# Altium footprint library Modules.PcbLib: 14 footprints (part 6 of 6)
Each footprint in its own frame and in the unit in brackets; x right, y up, seen from the top. Pads: shape width x height; smd on the part's side, far side on the other; paste and mask are expansions set on the pad; w line width, h text height; cw(c..) or ccw(c..) is an arc to the next point about the centre after c.
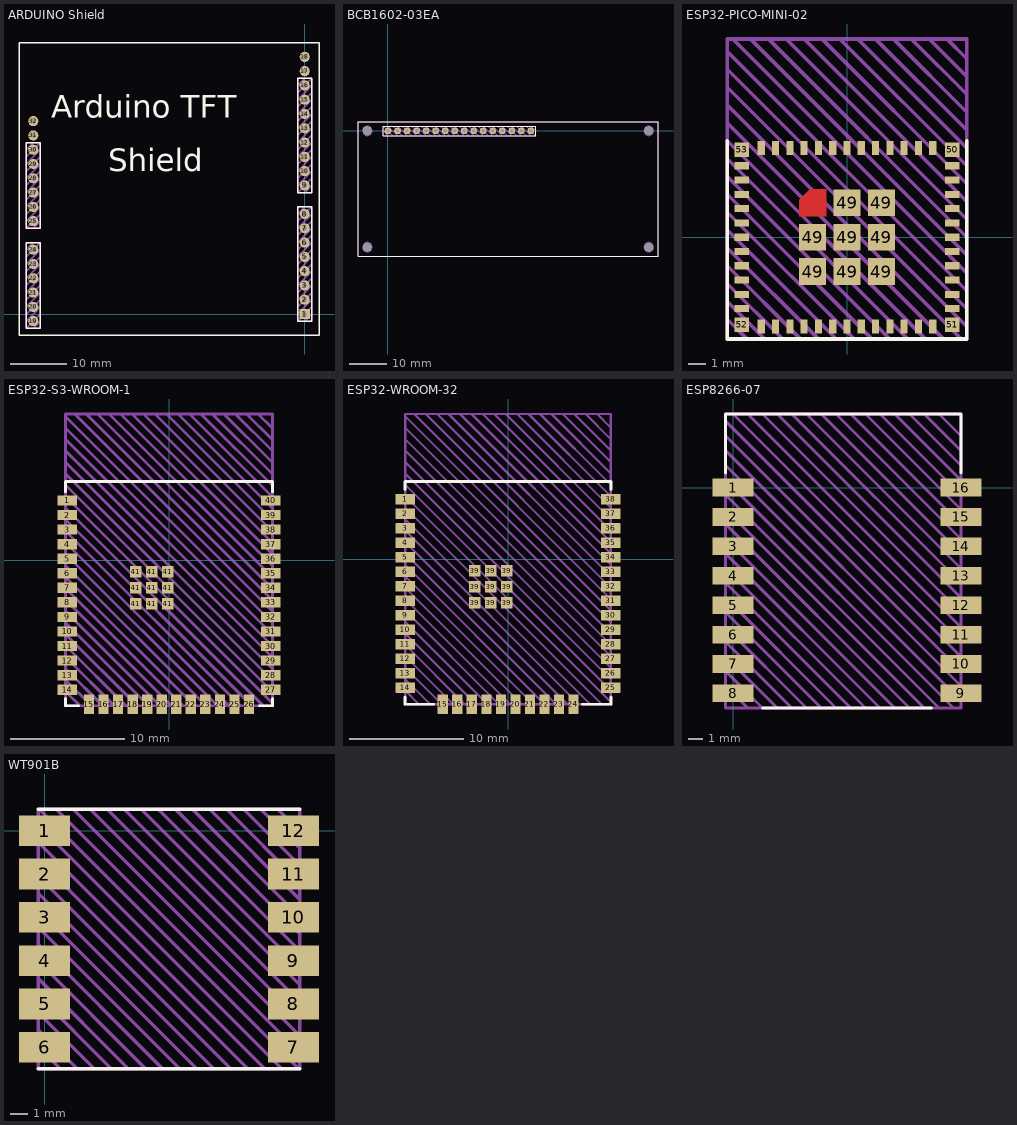
[diagram p5: the footprints below, top view; thin cyan lines are the x and y axes]

## ARDUINO Shield [mm]
pads (32):
  rect 1.8x1.8 hole 0.9: 1(0,0)
  round 1.8 hole 0.9: 2(0,2.54) 3(0,5.08) 4(0,7.62) 5(0,10.16) 6(0,12.7) 7(0,15.24) 8(0,17.78) 9(0,22.86) 10(0,25.4) 11(0,27.94) 12(0,30.48) 13(0,33.02) 14(0,35.56) 15(0,38.1) 16(0,40.64) 17(0,43.18) 18(0,45.72) 19(-48.26,-1.27) 20(-48.26,1.27) 21(-48.26,3.81) 22(-48.26,6.35) 23(-48.26,8.89) 24(-48.26,11.43) 25(-48.26,16.51) 26(-48.26,19.05) 27(-48.26,21.59) 28(-48.26,24.13) 29(-48.26,26.67) 30(-48.26,29.21) 31(-48.26,31.75) 32(-48.26,34.29)
Top Overlay:
  drawing of 358 lines, arcs and shapes, not listed
  text "Arduino TFT" at -45.085,34.925 h4
  text "Shield" at -34.925,25.4 h4
Top Draw:
  drawing of 162 lines, arcs and shapes, not listed
3D body: height 7.5, standoff 0, extent -0.533,37.567 0.533,37.592
3D body: height 8, standoff 0, extent 0.991,36.83 1.27,39.37
3D body: height 8, standoff 0, extent -1.27,39.091 1.27,39.37
3D body: height 0, standoff -2.03, extent -0.127,37.846 0.127,38.354
3D body: height 8, standoff 0, extent -1.27,36.83 1.27,37.11
3D body: height 7, standoff 0, extent -0.534,37.567 0.533,37.618
3D body: height 7, standoff 0, extent 0.482,37.567 0.533,38.634
3D body: height 7, standoff 0, extent -0.534,38.583 0.533,38.634
3D body: height 7, standoff 0, extent -0.534,37.567 -0.483,38.634
3D body: height 1, standoff 0, extent -0.635,37.465 0.635,38.735
3D body: height 8, standoff 0, extent -1.27,36.83 -0.991,39.37
3D body: height 8, standoff 7.5, extent -0.991,37.092 1.041,37.592
3D body: height 8, standoff 7.5, extent -1.009,37.084 -0.508,39.116
3D body: height 8, standoff 7.5, extent -1.016,38.608 1.016,39.109
3D body: height 8, standoff 7.5, extent 0.508,37.084 1.008,39.116
3D body: height 7.5, standoff 0, extent 0.508,37.567 0.533,38.634
3D body: height 7.5, standoff 0, extent -0.533,37.567 -0.508,38.634
3D body: height 7.5, standoff 0, extent -0.533,38.608 0.533,38.634
3D body: height 7.5, standoff 0, extent -0.533,40.107 0.533,40.132
3D body: height 8, standoff 0, extent 0.991,39.37 1.27,41.91
3D body: height 8, standoff 0, extent -1.27,41.631 1.27,41.91
3D body: height 0, standoff -2.03, extent -0.127,40.386 0.127,40.894
3D body: height 8, standoff 0, extent -1.27,39.37 1.27,39.65
3D body: height 7, standoff 0, extent -0.534,40.107 0.533,40.158
3D body: height 7, standoff 0, extent 0.482,40.107 0.533,41.174
3D body: height 7, standoff 0, extent -0.534,41.123 0.533,41.174
3D body: height 7, standoff 0, extent -0.534,40.107 -0.483,41.174
3D body: height 1, standoff 0, extent -0.635,40.005 0.635,41.275
3D body: height 8, standoff 0, extent -1.27,39.37 -0.991,41.91
3D body: height 8, standoff 7.5, extent -0.991,39.632 1.041,40.132
3D body: height 8, standoff 7.5, extent -1.009,39.624 -0.508,41.656
3D body: height 8, standoff 7.5, extent -1.016,41.148 1.016,41.649
3D body: height 8, standoff 7.5, extent 0.508,39.624 1.008,41.656
3D body: height 7.5, standoff 0, extent 0.508,40.107 0.533,41.174
3D body: height 7.5, standoff 0, extent -0.533,40.107 -0.508,41.174
3D body: height 7.5, standoff 0, extent -0.533,41.148 0.533,41.174
3D body: height 7.5, standoff 0, extent -0.533,32.487 0.533,32.512
3D body: height 8, standoff 0, extent 0.991,31.75 1.27,34.29
3D body: height 8, standoff 0, extent -1.27,34.011 1.27,34.29
3D body: height 0, standoff -2.03, extent -0.127,32.766 0.127,33.274
3D body: height 8, standoff 0, extent -1.27,31.75 1.27,32.03
3D body: height 7, standoff 0, extent -0.534,32.487 0.533,32.538
3D body: height 7, standoff 0, extent 0.482,32.487 0.533,33.554
3D body: height 7, standoff 0, extent -0.534,33.503 0.533,33.554
3D body: height 7, standoff 0, extent -0.534,32.487 -0.483,33.554
3D body: height 1, standoff 0, extent -0.635,32.385 0.635,33.655
3D body: height 8, standoff 0, extent -1.27,31.75 -0.991,34.29
3D body: height 8, standoff 7.5, extent -0.991,32.012 1.041,32.512
3D body: height 8, standoff 7.5, extent -1.009,32.004 -0.508,34.036
3D body: height 8, standoff 7.5, extent -1.016,33.528 1.016,34.029
3D body: height 8, standoff 7.5, extent 0.508,32.004 1.008,34.036
3D body: height 7.5, standoff 0, extent 0.508,32.487 0.533,33.554
3D body: height 7.5, standoff 0, extent -0.533,32.487 -0.508,33.554
3D body: height 7.5, standoff 0, extent -0.533,33.528 0.533,33.554
3D body: height 7.5, standoff 0, extent -0.533,35.027 0.533,35.052
3D body: height 8, standoff 0, extent 0.991,34.29 1.27,36.83
3D body: height 8, standoff 0, extent -1.27,36.551 1.27,36.83
3D body: height 0, standoff -2.03, extent -0.127,35.306 0.127,35.814
3D body: height 8, standoff 0, extent -1.27,34.29 1.27,34.57
3D body: height 7, standoff 0, extent -0.534,35.027 0.533,35.078
3D body: height 7, standoff 0, extent 0.482,35.027 0.533,36.094
3D body: height 7, standoff 0, extent -0.534,36.043 0.533,36.094
3D body: height 7, standoff 0, extent -0.534,35.027 -0.483,36.094
3D body: height 1, standoff 0, extent -0.635,34.925 0.635,36.195
3D body: height 8, standoff 0, extent -1.27,34.29 -0.991,36.83
3D body: height 8, standoff 7.5, extent -0.991,34.552 1.041,35.052
3D body: height 8, standoff 7.5, extent -1.009,34.544 -0.508,36.576
3D body: height 8, standoff 7.5, extent -1.016,36.068 1.016,36.569
3D body: height 8, standoff 7.5, extent 0.508,34.544 1.008,36.576
3D body: height 7.5, standoff 0, extent 0.508,35.027 0.533,36.094
3D body: height 7.5, standoff 0, extent -0.533,35.027 -0.508,36.094
3D body: height 7.5, standoff 0, extent -0.533,36.068 0.533,36.094
3D body: height 7.5, standoff 0, extent -0.533,27.407 0.533,27.432
3D body: height 8, standoff 0, extent 0.991,26.67 1.27,29.21
3D body: height 8, standoff 0, extent -1.27,28.931 1.27,29.21
3D body: height 0, standoff -2.03, extent -0.127,27.686 0.127,28.194
3D body: height 8, standoff 0, extent -1.27,26.67 1.27,26.95
3D body: height 7, standoff 0, extent -0.534,27.407 0.533,27.458
3D body: height 7, standoff 0, extent 0.482,27.407 0.533,28.474
3D body: height 7, standoff 0, extent -0.534,28.423 0.533,28.474
3D body: height 7, standoff 0, extent -0.534,27.407 -0.483,28.474
3D body: height 1, standoff 0, extent -0.635,27.305 0.635,28.575
3D body: height 8, standoff 0, extent -1.27,26.67 -0.991,29.21
3D body: height 8, standoff 7.5, extent -0.991,26.932 1.041,27.432
3D body: height 8, standoff 7.5, extent -1.009,26.924 -0.508,28.956
3D body: height 8, standoff 7.5, extent -1.016,28.448 1.016,28.949
3D body: height 8, standoff 7.5, extent 0.508,26.924 1.008,28.956
3D body: height 7.5, standoff 0, extent 0.508,27.407 0.533,28.474
3D body: height 7.5, standoff 0, extent -0.533,27.407 -0.508,28.474
3D body: height 7.5, standoff 0, extent -0.533,28.448 0.533,28.474
3D body: height 7.5, standoff 0, extent -0.533,29.947 0.533,29.972
3D body: height 8, standoff 0, extent 0.991,29.21 1.27,31.75
3D body: height 8, standoff 0, extent -1.27,31.471 1.27,31.75
3D body: height 0, standoff -2.03, extent -0.127,30.226 0.127,30.734
3D body: height 8, standoff 0, extent -1.27,29.21 1.27,29.49
3D body: height 7, standoff 0, extent -0.534,29.947 0.533,29.998
3D body: height 7, standoff 0, extent 0.482,29.947 0.533,31.014
3D body: height 7, standoff 0, extent -0.534,30.963 0.533,31.014
3D body: height 7, standoff 0, extent -0.534,29.947 -0.483,31.014
3D body: height 1, standoff 0, extent -0.635,29.845 0.635,31.115
3D body: height 8, standoff 0, extent -1.27,29.21 -0.991,31.75
3D body: height 8, standoff 7.5, extent -0.991,29.472 1.041,29.972
3D body: height 8, standoff 7.5, extent -1.009,29.464 -0.508,31.496
3D body: height 8, standoff 7.5, extent -1.016,30.988 1.016,31.489
3D body: height 8, standoff 7.5, extent 0.508,29.464 1.008,31.496
3D body: height 7.5, standoff 0, extent 0.508,29.947 0.533,31.014
3D body: height 7.5, standoff 0, extent -0.533,29.947 -0.508,31.014
3D body: height 7.5, standoff 0, extent -0.533,30.988 0.533,31.014
3D body: height 7.5, standoff 0, extent -0.533,22.327 0.533,22.352
3D body: height 8, standoff 0, extent 0.991,21.59 1.27,24.13
3D body: height 8, standoff 0, extent -1.27,23.851 1.27,24.13
3D body: height 0, standoff -2.03, extent -0.127,22.606 0.127,23.114
3D body: height 8, standoff 0, extent -1.27,21.59 1.27,21.87
3D body: height 7, standoff 0, extent -0.534,22.327 0.533,22.378
3D body: height 7, standoff 0, extent 0.482,22.327 0.533,23.394
3D body: height 7, standoff 0, extent -0.534,23.343 0.533,23.394
3D body: height 7, standoff 0, extent -0.534,22.327 -0.483,23.394
3D body: height 1, standoff 0, extent -0.635,22.225 0.635,23.495
3D body: height 8, standoff 0, extent -1.27,21.59 -0.991,24.13
3D body: height 8, standoff 7.5, extent -0.991,21.852 1.041,22.352
3D body: height 8, standoff 7.5, extent -1.009,21.844 -0.508,23.876
3D body: height 8, standoff 7.5, extent -1.016,23.368 1.016,23.869
3D body: height 8, standoff 7.5, extent 0.508,21.844 1.008,23.876
3D body: height 7.5, standoff 0, extent 0.508,22.327 0.533,23.394
3D body: height 7.5, standoff 0, extent -0.533,22.327 -0.508,23.394
3D body: height 7.5, standoff 0, extent -0.533,23.368 0.533,23.394
3D body: height 7.5, standoff 0, extent -0.533,24.867 0.533,24.892
3D body: height 8, standoff 0, extent 0.991,24.13 1.27,26.67
3D body: height 8, standoff 0, extent -1.27,26.391 1.27,26.67
3D body: height 0, standoff -2.03, extent -0.127,25.146 0.127,25.654
3D body: height 8, standoff 0, extent -1.27,24.13 1.27,24.41
3D body: height 7, standoff 0, extent -0.534,24.867 0.533,24.918
3D body: height 7, standoff 0, extent 0.482,24.867 0.533,25.934
3D body: height 7, standoff 0, extent -0.534,25.883 0.533,25.934
3D body: height 7, standoff 0, extent -0.534,24.867 -0.483,25.934
3D body: height 1, standoff 0, extent -0.635,24.765 0.635,26.035
3D body: height 8, standoff 0, extent -1.27,24.13 -0.991,26.67
3D body: height 8, standoff 7.5, extent -0.991,24.392 1.041,24.892
3D body: height 8, standoff 7.5, extent -1.009,24.384 -0.508,26.416
3D body: height 8, standoff 7.5, extent -1.016,25.908 1.016,26.409
3D body: height 8, standoff 7.5, extent 0.508,24.384 1.008,26.416
3D body: height 7.5, standoff 0, extent 0.508,24.867 0.533,25.934
3D body: height 7.5, standoff 0, extent -0.533,24.867 -0.508,25.934
3D body: height 7.5, standoff 0, extent -0.533,25.908 0.533,25.934
3D body: height 7.5, standoff 0, extent -0.533,14.707 0.533,14.732
3D body: height 8, standoff 0, extent 0.991,13.97 1.27,16.51
3D body: height 8, standoff 0, extent -1.27,16.231 1.27,16.51
3D body: height 0, standoff -2.03, extent -0.127,14.986 0.127,15.494
3D body: height 8, standoff 0, extent -1.27,13.97 1.27,14.25
3D body: height 7, standoff 0, extent -0.534,14.707 0.533,14.758
3D body: height 7, standoff 0, extent 0.482,14.707 0.533,15.774
3D body: height 7, standoff 0, extent -0.534,15.723 0.533,15.774
3D body: height 7, standoff 0, extent -0.534,14.707 -0.483,15.774
3D body: height 1, standoff 0, extent -0.635,14.605 0.635,15.875
3D body: height 8, standoff 0, extent -1.27,13.97 -0.991,16.51
3D body: height 8, standoff 7.5, extent -0.991,14.232 1.041,14.732
3D body: height 8, standoff 7.5, extent -1.009,14.224 -0.508,16.256
3D body: height 8, standoff 7.5, extent -1.016,15.748 1.016,16.249
3D body: height 8, standoff 7.5, extent 0.508,14.224 1.008,16.256
3D body: height 7.5, standoff 0, extent 0.508,14.707 0.533,15.774
3D body: height 7.5, standoff 0, extent -0.533,14.707 -0.508,15.774
3D body: height 7.5, standoff 0, extent -0.533,15.748 0.533,15.774
3D body: height 7.5, standoff 0, extent -0.533,17.247 0.533,17.272
3D body: height 8, standoff 0, extent 0.991,16.51 1.27,19.05
3D body: height 8, standoff 0, extent -1.27,18.771 1.27,19.05
3D body: height 0, standoff -2.03, extent -0.127,17.526 0.127,18.034
3D body: height 8, standoff 0, extent -1.27,16.51 1.27,16.79
3D body: height 7, standoff 0, extent -0.534,17.247 0.533,17.298
3D body: height 7, standoff 0, extent 0.482,17.247 0.533,18.314
3D body: height 7, standoff 0, extent -0.534,18.263 0.533,18.314
3D body: height 7, standoff 0, extent -0.534,17.247 -0.483,18.314
3D body: height 1, standoff 0, extent -0.635,17.145 0.635,18.415
3D body: height 8, standoff 0, extent -1.27,16.51 -0.991,19.05
3D body: height 8, standoff 7.5, extent -0.991,16.772 1.041,17.272
3D body: height 8, standoff 7.5, extent -1.009,16.764 -0.508,18.796
3D body: height 8, standoff 7.5, extent -1.016,18.288 1.016,18.789
3D body: height 8, standoff 7.5, extent 0.508,16.764 1.008,18.796
3D body: height 7.5, standoff 0, extent 0.508,17.247 0.533,18.314
3D body: height 7.5, standoff 0, extent -0.533,17.247 -0.508,18.314
3D body: height 7.5, standoff 0, extent -0.533,18.288 0.533,18.314
3D body: height 7.5, standoff 0, extent -0.533,9.627 0.533,9.652
3D body: height 8, standoff 0, extent 0.991,8.89 1.27,11.43
3D body: height 8, standoff 0, extent -1.27,11.151 1.27,11.43
3D body: height 0, standoff -2.03, extent -0.127,9.906 0.127,10.414
3D body: height 8, standoff 0, extent -1.27,8.89 1.27,9.17
3D body: height 7, standoff 0, extent -0.534,9.627 0.533,9.678
3D body: height 7, standoff 0, extent 0.482,9.627 0.533,10.694
3D body: height 7, standoff 0, extent -0.534,10.643 0.533,10.694
3D body: height 7, standoff 0, extent -0.534,9.627 -0.483,10.694
3D body: height 1, standoff 0, extent -0.635,9.525 0.635,10.795
3D body: height 8, standoff 0, extent -1.27,8.89 -0.991,11.43
3D body: height 8, standoff 7.5, extent -0.991,9.152 1.041,9.652
3D body: height 8, standoff 7.5, extent -1.009,9.144 -0.508,11.176
3D body: height 8, standoff 7.5, extent -1.016,10.668 1.016,11.169
3D body: height 8, standoff 7.5, extent 0.508,9.144 1.008,11.176
3D body: height 7.5, standoff 0, extent 0.508,9.627 0.533,10.694
3D body: height 7.5, standoff 0, extent -0.533,9.627 -0.508,10.694
3D body: height 7.5, standoff 0, extent -0.533,10.668 0.533,10.694
3D body: height 7.5, standoff 0, extent -0.533,12.167 0.533,12.192
3D body: height 8, standoff 0, extent 0.991,11.43 1.27,13.97
3D body: height 8, standoff 0, extent -1.27,13.691 1.27,13.97
3D body: height 0, standoff -2.03, extent -0.127,12.446 0.127,12.954
3D body: height 8, standoff 0, extent -1.27,11.43 1.27,11.71
3D body: height 7, standoff 0, extent -0.534,12.167 0.533,12.218
3D body: height 7, standoff 0, extent 0.482,12.167 0.533,13.234
3D body: height 7, standoff 0, extent -0.534,13.183 0.533,13.234
3D body: height 7, standoff 0, extent -0.534,12.167 -0.483,13.234
3D body: height 1, standoff 0, extent -0.635,12.065 0.635,13.335
3D body: height 8, standoff 0, extent -1.27,11.43 -0.991,13.97
3D body: height 8, standoff 7.5, extent -0.991,11.692 1.041,12.192
3D body: height 8, standoff 7.5, extent -1.009,11.684 -0.508,13.716
3D body: height 8, standoff 7.5, extent -1.016,13.208 1.016,13.709
3D body: height 8, standoff 7.5, extent 0.508,11.684 1.008,13.716
3D body: height 7.5, standoff 0, extent 0.508,12.167 0.533,13.234
3D body: height 7.5, standoff 0, extent -0.533,12.167 -0.508,13.234
3D body: height 7.5, standoff 0, extent -0.533,13.208 0.533,13.234
3D body: height 7.5, standoff 0, extent -0.533,4.547 0.533,4.572
3D body: height 8, standoff 0, extent 0.991,3.81 1.27,6.35
3D body: height 8, standoff 0, extent -1.27,6.071 1.27,6.35
3D body: height 0, standoff -2.03, extent -0.127,4.826 0.127,5.334
3D body: height 8, standoff 0, extent -1.27,3.81 1.27,4.09
3D body: height 7, standoff 0, extent -0.534,4.547 0.533,4.598
3D body: height 7, standoff 0, extent 0.482,4.547 0.533,5.614
3D body: height 7, standoff 0, extent -0.534,5.563 0.533,5.614
3D body: height 7, standoff 0, extent -0.534,4.547 -0.483,5.614
3D body: height 1, standoff 0, extent -0.635,4.445 0.635,5.715
3D body: height 8, standoff 0, extent -1.27,3.81 -0.991,6.35
3D body: height 8, standoff 7.5, extent -0.991,4.072 1.041,4.572
3D body: height 8, standoff 7.5, extent -1.009,4.064 -0.508,6.096
3D body: height 8, standoff 7.5, extent -1.016,5.588 1.016,6.089
3D body: height 8, standoff 7.5, extent 0.508,4.064 1.008,6.096
3D body: height 7.5, standoff 0, extent 0.508,4.547 0.533,5.614
3D body: height 7.5, standoff 0, extent -0.533,4.547 -0.508,5.614
3D body: height 7.5, standoff 0, extent -0.533,5.588 0.533,5.614
3D body: height 7.5, standoff 0, extent -0.533,7.087 0.533,7.112
3D body: height 8, standoff 0, extent 0.991,6.35 1.27,8.89
3D body: height 8, standoff 0, extent -1.27,8.611 1.27,8.89
3D body: height 0, standoff -2.03, extent -0.127,7.366 0.127,7.874
3D body: height 8, standoff 0, extent -1.27,6.35 1.27,6.63
3D body: height 7, standoff 0, extent -0.534,7.087 0.533,7.138
3D body: height 7, standoff 0, extent 0.482,7.087 0.533,8.154
3D body: height 7, standoff 0, extent -0.534,8.103 0.533,8.154
3D body: height 7, standoff 0, extent -0.534,7.087 -0.483,8.154
3D body: height 1, standoff 0, extent -0.635,6.985 0.635,8.255
3D body: height 8, standoff 0, extent -1.27,6.35 -0.991,8.89
3D body: height 8, standoff 7.5, extent -0.991,6.612 1.041,7.112
3D body: height 8, standoff 7.5, extent -1.009,6.604 -0.508,8.636
3D body: height 8, standoff 7.5, extent -1.016,8.128 1.016,8.629
3D body: height 8, standoff 7.5, extent 0.508,6.604 1.008,8.636
3D body: height 7.5, standoff 0, extent 0.508,7.087 0.533,8.154
3D body: height 7.5, standoff 0, extent -0.533,7.087 -0.508,8.154
3D body: height 7.5, standoff 0, extent -0.533,8.128 0.533,8.154
3D body: height 7.5, standoff 0, extent -0.533,-0.533 0.533,-0.508
3D body: height 8, standoff 0, extent 0.991,-1.27 1.27,1.27
3D body: height 8, standoff 0, extent -1.27,0.991 1.27,1.27
3D body: height 0, standoff -2.03, extent -0.127,-0.254 0.127,0.254
3D body: height 8, standoff 0, extent -1.27,-1.27 1.27,-0.99
3D body: height 7, standoff 0, extent -0.534,-0.533 0.533,-0.482
3D body: height 7, standoff 0, extent 0.482,-0.533 0.533,0.534
3D body: height 7, standoff 0, extent -0.534,0.483 0.533,0.534
3D body: height 7, standoff 0, extent -0.534,-0.533 -0.483,0.534
3D body: height 1, standoff 0, extent -0.635,-0.635 0.635,0.635
3D body: height 8, standoff 0, extent -1.27,-1.27 -0.991,1.27
3D body: height 8, standoff 7.5, extent -0.991,-1.008 1.041,-0.508
3D body: height 8, standoff 7.5, extent -1.009,-1.016 -0.508,1.016
3D body: height 8, standoff 7.5, extent -1.016,0.508 1.016,1.009
3D body: height 8, standoff 7.5, extent 0.508,-1.016 1.008,1.016
3D body: height 7.5, standoff 0, extent 0.508,-0.533 0.533,0.534
3D body: height 7.5, standoff 0, extent -0.533,-0.533 -0.508,0.534
3D body: height 7.5, standoff 0, extent -0.533,0.508 0.533,0.534
3D body: height 7.5, standoff 0, extent -0.533,2.007 0.533,2.032
3D body: height 8, standoff 0, extent 0.991,1.27 1.27,3.81
3D body: height 8, standoff 0, extent -1.27,3.531 1.27,3.81
3D body: height 0, standoff -2.03, extent -0.127,2.286 0.127,2.794
3D body: height 8, standoff 0, extent -1.27,1.27 1.27,1.55
3D body: height 7, standoff 0, extent -0.534,2.007 0.533,2.058
3D body: height 7, standoff 0, extent 0.482,2.007 0.533,3.074
3D body: height 7, standoff 0, extent -0.534,3.023 0.533,3.074
3D body: height 7, standoff 0, extent -0.534,2.007 -0.483,3.074
3D body: height 1, standoff 0, extent -0.635,1.905 0.635,3.175
3D body: height 8, standoff 0, extent -1.27,1.27 -0.991,3.81
3D body: height 8, standoff 7.5, extent -0.991,1.532 1.041,2.032
3D body: height 8, standoff 7.5, extent -1.009,1.524 -0.508,3.556
3D body: height 8, standoff 7.5, extent -1.016,3.048 1.016,3.549
3D body: height 8, standoff 7.5, extent 0.508,1.524 1.008,3.556
3D body: height 7.5, standoff 0, extent 0.508,2.007 0.533,3.074
3D body: height 7.5, standoff 0, extent -0.533,2.007 -0.508,3.074
3D body: height 7.5, standoff 0, extent -0.533,3.048 0.533,3.074
3D body: height 7.5, standoff 0, extent -48.793,1.778 -47.727,1.804
3D body: height 7.5, standoff 0, extent -48.793,0.737 -48.768,1.804
3D body: height 7.5, standoff 0, extent -47.752,0.737 -47.727,1.804
3D body: height 8, standoff 7.5, extent -47.752,0.254 -47.252,2.286
3D body: height 8, standoff 7.5, extent -49.276,1.778 -47.244,2.279
3D body: height 8, standoff 7.5, extent -49.269,0.254 -48.768,2.286
3D body: height 8, standoff 7.5, extent -49.251,0.262 -47.219,0.762
3D body: height 8, standoff 0, extent -49.53,0 -49.251,2.54
3D body: height 1, standoff 0, extent -48.895,0.635 -47.625,1.905
3D body: height 7, standoff 0, extent -48.794,0.737 -48.743,1.804
3D body: height 7, standoff 0, extent -48.794,1.753 -47.727,1.804
3D body: height 7, standoff 0, extent -47.778,0.737 -47.727,1.804
3D body: height 7, standoff 0, extent -48.794,0.737 -47.727,0.788
3D body: height 8, standoff 0, extent -49.53,0 -46.99,0.28
3D body: height 0, standoff -2.03, extent -48.387,1.016 -48.133,1.524
3D body: height 8, standoff 0, extent -49.53,2.261 -46.99,2.54
3D body: height 8, standoff 0, extent -47.269,0 -46.99,2.54
3D body: height 7.5, standoff 0, extent -48.793,0.737 -47.727,0.762
3D body: height 7.5, standoff 0, extent -48.793,-0.762 -47.727,-0.736
3D body: height 7.5, standoff 0, extent -48.793,-1.803 -48.768,-0.736
3D body: height 7.5, standoff 0, extent -47.752,-1.803 -47.727,-0.736
3D body: height 8, standoff 7.5, extent -47.752,-2.286 -47.252,-0.254
3D body: height 8, standoff 7.5, extent -49.276,-0.762 -47.244,-0.261
3D body: height 8, standoff 7.5, extent -49.269,-2.286 -48.768,-0.254
3D body: height 8, standoff 7.5, extent -49.251,-2.278 -47.219,-1.778
3D body: height 8, standoff 0, extent -49.53,-2.54 -49.251,0
3D body: height 1, standoff 0, extent -48.895,-1.905 -47.625,-0.635
3D body: height 7, standoff 0, extent -48.794,-1.803 -48.743,-0.736
3D body: height 7, standoff 0, extent -48.794,-0.787 -47.727,-0.736
3D body: height 7, standoff 0, extent -47.778,-1.803 -47.727,-0.736
3D body: height 7, standoff 0, extent -48.794,-1.803 -47.727,-1.752
3D body: height 8, standoff 0, extent -49.53,-2.54 -46.99,-2.26
3D body: height 0, standoff -2.03, extent -48.387,-1.524 -48.133,-1.016
3D body: height 8, standoff 0, extent -49.53,-0.279 -46.99,0
3D body: height 8, standoff 0, extent -47.269,-2.54 -46.99,0
3D body: height 7.5, standoff 0, extent -48.793,-1.803 -47.727,-1.778
3D body: height 7.5, standoff 0, extent -48.793,6.858 -47.727,6.884
3D body: height 7.5, standoff 0, extent -48.793,5.817 -48.768,6.884
3D body: height 7.5, standoff 0, extent -47.752,5.817 -47.727,6.884
3D body: height 8, standoff 7.5, extent -47.752,5.334 -47.252,7.366
3D body: height 8, standoff 7.5, extent -49.276,6.858 -47.244,7.359
3D body: height 8, standoff 7.5, extent -49.269,5.334 -48.768,7.366
3D body: height 8, standoff 7.5, extent -49.251,5.342 -47.219,5.842
3D body: height 8, standoff 0, extent -49.53,5.08 -49.251,7.62
3D body: height 1, standoff 0, extent -48.895,5.715 -47.625,6.985
3D body: height 7, standoff 0, extent -48.794,5.817 -48.743,6.884
3D body: height 7, standoff 0, extent -48.794,6.833 -47.727,6.884
3D body: height 7, standoff 0, extent -47.778,5.817 -47.727,6.884
3D body: height 7, standoff 0, extent -48.794,5.817 -47.727,5.868
3D body: height 8, standoff 0, extent -49.53,5.08 -46.99,5.36
3D body: height 0, standoff -2.03, extent -48.387,6.096 -48.133,6.604
3D body: height 8, standoff 0, extent -49.53,7.341 -46.99,7.62
3D body: height 8, standoff 0, extent -47.269,5.08 -46.99,7.62
3D body: height 7.5, standoff 0, extent -48.793,5.817 -47.727,5.842
3D body: height 7.5, standoff 0, extent -48.793,4.318 -47.727,4.344
3D body: height 7.5, standoff 0, extent -48.793,3.277 -48.768,4.344
3D body: height 7.5, standoff 0, extent -47.752,3.277 -47.727,4.344
3D body: height 8, standoff 7.5, extent -47.752,2.794 -47.252,4.826
3D body: height 8, standoff 7.5, extent -49.276,4.318 -47.244,4.819
3D body: height 8, standoff 7.5, extent -49.269,2.794 -48.768,4.826
3D body: height 8, standoff 7.5, extent -49.251,2.802 -47.219,3.302
3D body: height 8, standoff 0, extent -49.53,2.54 -49.251,5.08
3D body: height 1, standoff 0, extent -48.895,3.175 -47.625,4.445
3D body: height 7, standoff 0, extent -48.794,3.277 -48.743,4.344
3D body: height 7, standoff 0, extent -48.794,4.293 -47.727,4.344
3D body: height 7, standoff 0, extent -47.778,3.277 -47.727,4.344
3D body: height 7, standoff 0, extent -48.794,3.277 -47.727,3.328
3D body: height 8, standoff 0, extent -49.53,2.54 -46.99,2.82
3D body: height 0, standoff -2.03, extent -48.387,3.556 -48.133,4.064
3D body: height 8, standoff 0, extent -49.53,4.801 -46.99,5.08
3D body: height 8, standoff 0, extent -47.269,2.54 -46.99,5.08
3D body: height 7.5, standoff 0, extent -48.793,3.277 -47.727,3.302
3D body: height 7.5, standoff 0, extent -48.793,11.938 -47.727,11.964
3D body: height 7.5, standoff 0, extent -48.793,10.897 -48.768,11.964
3D body: height 7.5, standoff 0, extent -47.752,10.897 -47.727,11.964
3D body: height 8, standoff 7.5, extent -47.752,10.414 -47.252,12.446
3D body: height 8, standoff 7.5, extent -49.276,11.938 -47.244,12.439
3D body: height 8, standoff 7.5, extent -49.269,10.414 -48.768,12.446
3D body: height 8, standoff 7.5, extent -49.251,10.422 -47.219,10.922
3D body: height 8, standoff 0, extent -49.53,10.16 -49.251,12.7
3D body: height 1, standoff 0, extent -48.895,10.795 -47.625,12.065
3D body: height 7, standoff 0, extent -48.794,10.897 -48.743,11.964
3D body: height 7, standoff 0, extent -48.794,11.913 -47.727,11.964
3D body: height 7, standoff 0, extent -47.778,10.897 -47.727,11.964
3D body: height 7, standoff 0, extent -48.794,10.897 -47.727,10.948
3D body: height 8, standoff 0, extent -49.53,10.16 -46.99,10.44
3D body: height 0, standoff -2.03, extent -48.387,11.176 -48.133,11.684
3D body: height 8, standoff 0, extent -49.53,12.421 -46.99,12.7
3D body: height 8, standoff 0, extent -47.269,10.16 -46.99,12.7
3D body: height 7.5, standoff 0, extent -48.793,10.897 -47.727,10.922
3D body: height 7.5, standoff 0, extent -48.793,9.398 -47.727,9.424
3D body: height 7.5, standoff 0, extent -48.793,8.357 -48.768,9.424
3D body: height 7.5, standoff 0, extent -47.752,8.357 -47.727,9.424
3D body: height 8, standoff 7.5, extent -47.752,7.874 -47.252,9.906
3D body: height 8, standoff 7.5, extent -49.276,9.398 -47.244,9.899
3D body: height 8, standoff 7.5, extent -49.269,7.874 -48.768,9.906
3D body: height 8, standoff 7.5, extent -49.251,7.882 -47.219,8.382
3D body: height 8, standoff 0, extent -49.53,7.62 -49.251,10.16
3D body: height 1, standoff 0, extent -48.895,8.255 -47.625,9.525
3D body: height 7, standoff 0, extent -48.794,8.357 -48.743,9.424
3D body: height 7, standoff 0, extent -48.794,9.373 -47.727,9.424
3D body: height 7, standoff 0, extent -47.778,8.357 -47.727,9.424
3D body: height 7, standoff 0, extent -48.794,8.357 -47.727,8.408
3D body: height 8, standoff 0, extent -49.53,7.62 -46.99,7.9
3D body: height 0, standoff -2.03, extent -48.387,8.636 -48.133,9.144
3D body: height 8, standoff 0, extent -49.53,9.881 -46.99,10.16
3D body: height 8, standoff 0, extent -47.269,7.62 -46.99,10.16
3D body: height 7.5, standoff 0, extent -48.793,8.357 -47.727,8.382
3D body: height 7.5, standoff 0, extent -48.793,19.558 -47.727,19.584
3D body: height 7.5, standoff 0, extent -48.793,18.517 -48.768,19.584
3D body: height 7.5, standoff 0, extent -47.752,18.517 -47.727,19.584
3D body: height 8, standoff 7.5, extent -47.752,18.034 -47.252,20.066
3D body: height 8, standoff 7.5, extent -49.276,19.558 -47.244,20.059
3D body: height 8, standoff 7.5, extent -49.269,18.034 -48.768,20.066
3D body: height 8, standoff 7.5, extent -49.251,18.042 -47.219,18.542
3D body: height 8, standoff 0, extent -49.53,17.78 -49.251,20.32
3D body: height 1, standoff 0, extent -48.895,18.415 -47.625,19.685
3D body: height 7, standoff 0, extent -48.794,18.517 -48.743,19.584
3D body: height 7, standoff 0, extent -48.794,19.533 -47.727,19.584
3D body: height 7, standoff 0, extent -47.778,18.517 -47.727,19.584
3D body: height 7, standoff 0, extent -48.794,18.517 -47.727,18.568
3D body: height 8, standoff 0, extent -49.53,17.78 -46.99,18.06
3D body: height 0, standoff -2.03, extent -48.387,18.796 -48.133,19.304
3D body: height 8, standoff 0, extent -49.53,20.041 -46.99,20.32
3D body: height 8, standoff 0, extent -47.269,17.78 -46.99,20.32
3D body: height 7.5, standoff 0, extent -48.793,18.517 -47.727,18.542
3D body: height 7.5, standoff 0, extent -48.793,17.018 -47.727,17.044
3D body: height 7.5, standoff 0, extent -48.793,15.977 -48.768,17.044
3D body: height 7.5, standoff 0, extent -47.752,15.977 -47.727,17.044
3D body: height 8, standoff 7.5, extent -47.752,15.494 -47.252,17.526
3D body: height 8, standoff 7.5, extent -49.276,17.018 -47.244,17.519
3D body: height 8, standoff 7.5, extent -49.269,15.494 -48.768,17.526
3D body: height 8, standoff 7.5, extent -49.251,15.502 -47.219,16.002
3D body: height 8, standoff 0, extent -49.53,15.24 -49.251,17.78
3D body: height 1, standoff 0, extent -48.895,15.875 -47.625,17.145
3D body: height 7, standoff 0, extent -48.794,15.977 -48.743,17.044
3D body: height 7, standoff 0, extent -48.794,16.993 -47.727,17.044
3D body: height 7, standoff 0, extent -47.778,15.977 -47.727,17.044
3D body: height 7, standoff 0, extent -48.794,15.977 -47.727,16.028
3D body: height 8, standoff 0, extent -49.53,15.24 -46.99,15.52
3D body: height 0, standoff -2.03, extent -48.387,16.256 -48.133,16.764
3D body: height 8, standoff 0, extent -49.53,17.501 -46.99,17.78
3D body: height 8, standoff 0, extent -47.269,15.24 -46.99,17.78
3D body: height 7.5, standoff 0, extent -48.793,15.977 -47.727,16.002
3D body: height 7.5, standoff 0, extent -48.793,24.638 -47.727,24.664
3D body: height 7.5, standoff 0, extent -48.793,23.597 -48.768,24.664
3D body: height 7.5, standoff 0, extent -47.752,23.597 -47.727,24.664
3D body: height 8, standoff 7.5, extent -47.752,23.114 -47.252,25.146
3D body: height 8, standoff 7.5, extent -49.276,24.638 -47.244,25.139
3D body: height 8, standoff 7.5, extent -49.269,23.114 -48.768,25.146
3D body: height 8, standoff 7.5, extent -49.251,23.122 -47.219,23.622
3D body: height 8, standoff 0, extent -49.53,22.86 -49.251,25.4
3D body: height 1, standoff 0, extent -48.895,23.495 -47.625,24.765
3D body: height 7, standoff 0, extent -48.794,23.597 -48.743,24.664
3D body: height 7, standoff 0, extent -48.794,24.613 -47.727,24.664
3D body: height 7, standoff 0, extent -47.778,23.597 -47.727,24.664
3D body: height 7, standoff 0, extent -48.794,23.597 -47.727,23.648
3D body: height 8, standoff 0, extent -49.53,22.86 -46.99,23.14
3D body: height 0, standoff -2.03, extent -48.387,23.876 -48.133,24.384
3D body: height 8, standoff 0, extent -49.53,25.121 -46.99,25.4
3D body: height 8, standoff 0, extent -47.269,22.86 -46.99,25.4
3D body: height 7.5, standoff 0, extent -48.793,23.597 -47.727,23.622
3D body: height 7.5, standoff 0, extent -48.793,22.098 -47.727,22.124
3D body: height 7.5, standoff 0, extent -48.793,21.057 -48.768,22.124
3D body: height 7.5, standoff 0, extent -47.752,21.057 -47.727,22.124
3D body: height 8, standoff 7.5, extent -47.752,20.574 -47.252,22.606
3D body: height 8, standoff 7.5, extent -49.276,22.098 -47.244,22.599
3D body: height 8, standoff 7.5, extent -49.269,20.574 -48.768,22.606
3D body: height 8, standoff 7.5, extent -49.251,20.582 -47.219,21.082
3D body: height 8, standoff 0, extent -49.53,20.32 -49.251,22.86
3D body: height 1, standoff 0, extent -48.895,20.955 -47.625,22.225
3D body: height 7, standoff 0, extent -48.794,21.057 -48.743,22.124
3D body: height 7, standoff 0, extent -48.794,22.073 -47.727,22.124
3D body: height 7, standoff 0, extent -47.778,21.057 -47.727,22.124
3D body: height 7, standoff 0, extent -48.794,21.057 -47.727,21.108
3D body: height 8, standoff 0, extent -49.53,20.32 -46.99,20.6
3D body: height 0, standoff -2.03, extent -48.387,21.336 -48.133,21.844
3D body: height 8, standoff 0, extent -49.53,22.581 -46.99,22.86
3D body: height 8, standoff 0, extent -47.269,20.32 -46.99,22.86
3D body: height 7.5, standoff 0, extent -48.793,21.057 -47.727,21.082
3D body: height 7.5, standoff 0, extent -48.793,29.718 -47.727,29.744
3D body: height 7.5, standoff 0, extent -48.793,28.677 -48.768,29.744
3D body: height 7.5, standoff 0, extent -47.752,28.677 -47.727,29.744
3D body: height 8, standoff 7.5, extent -47.752,28.194 -47.252,30.226
3D body: height 8, standoff 7.5, extent -49.276,29.718 -47.244,30.219
3D body: height 8, standoff 7.5, extent -49.269,28.194 -48.768,30.226
3D body: height 8, standoff 7.5, extent -49.251,28.202 -47.219,28.702
3D body: height 8, standoff 0, extent -49.53,27.94 -49.251,30.48
3D body: height 1, standoff 0, extent -48.895,28.575 -47.625,29.845
3D body: height 7, standoff 0, extent -48.794,28.677 -48.743,29.744
3D body: height 7, standoff 0, extent -48.794,29.693 -47.727,29.744
3D body: height 7, standoff 0, extent -47.778,28.677 -47.727,29.744
3D body: height 7, standoff 0, extent -48.794,28.677 -47.727,28.728
3D body: height 8, standoff 0, extent -49.53,27.94 -46.99,28.22
3D body: height 0, standoff -2.03, extent -48.387,28.956 -48.133,29.464
3D body: height 8, standoff 0, extent -49.53,30.201 -46.99,30.48
3D body: height 8, standoff 0, extent -47.269,27.94 -46.99,30.48
3D body: height 7.5, standoff 0, extent -48.793,28.677 -47.727,28.702
3D body: height 7.5, standoff 0, extent -48.793,27.178 -47.727,27.204
3D body: height 7.5, standoff 0, extent -48.793,26.137 -48.768,27.204
3D body: height 7.5, standoff 0, extent -47.752,26.137 -47.727,27.204
3D body: height 8, standoff 7.5, extent -47.752,25.654 -47.252,27.686
3D body: height 8, standoff 7.5, extent -49.276,27.178 -47.244,27.679
3D body: height 8, standoff 7.5, extent -49.269,25.654 -48.768,27.686
3D body: height 8, standoff 7.5, extent -49.251,25.662 -47.219,26.162
3D body: height 8, standoff 0, extent -49.53,25.4 -49.251,27.94
3D body: height 1, standoff 0, extent -48.895,26.035 -47.625,27.305
3D body: height 7, standoff 0, extent -48.794,26.137 -48.743,27.204
3D body: height 7, standoff 0, extent -48.794,27.153 -47.727,27.204
3D body: height 7, standoff 0, extent -47.778,26.137 -47.727,27.204
3D body: height 7, standoff 0, extent -48.794,26.137 -47.727,26.188
3D body: height 8, standoff 0, extent -49.53,25.4 -46.99,25.68
3D body: height 0, standoff -2.03, extent -48.387,26.416 -48.133,26.924
3D body: height 8, standoff 0, extent -49.53,27.661 -46.99,27.94
3D body: height 8, standoff 0, extent -47.269,25.4 -46.99,27.94
3D body: height 7.5, standoff 0, extent -48.793,26.137 -47.727,26.162

## BCB1602-03EA [mm] "Monochrome LCD Display Module"
pads (20):
  round 1.8 hole 0.9: 1(0,0) 2(2.54,0) 3(5.08,0) 4(7.62,0) 5(10.16,0) 6(12.7,0) 7(15.24,0) 8(17.78,0) 9(20.32,0) 10(22.86,0) 11(25.4,0) 12(27.94,0) 13(30.48,0) 14(33.02,0) 15(35.56,0) 16(38.1,0)
  round 0 hole 2.5: ""(-5.5,-31) ""(-5.5,0) ""(69.5,-31) ""(69.5,0)
Top Overlay:
  lines w0.2: -8,-33.5 72,-33.5 72,2.5 -8,2.5 -8,-33.5 ; -1.27,-1.27 39.37,-1.27 39.37,1.27 -1.27,1.27 -1.27,-1.27
Top Draw:
  circle w0.25: c69.5,0 r1.25
  circle w0.25: c69.5,-31 r1.25
  circle w0.25: c-5.5,-31 r1.25
  circle w0.25: c-5.5,0 r1.25
  lines w0.25: -1.27,0 0,-1.27 ; 0,1.27 2.54,-1.27 ; 1.27,-1.27 -1.27,1.27 ; 1.27,1.27 3.81,-1.27 ; 2.54,1.27 5.08,-1.27 ; 3.81,1.27 6.35,-1.27 ; 5.08,1.27 7.62,-1.27 ; 6.35,1.27 8.89,-1.27 ; 7.62,1.27 10.16,-1.27 ; 8.89,1.27 11.43,-1.27 ; 10.16,1.27 12.7,-1.27 ; 11.43,1.27 13.97,-1.27 ; 12.7,1.27 15.24,-1.27 ; 13.97,1.27 16.51,-1.27 ; 15.24,1.27 17.78,-1.27 ; 16.51,1.27 19.05,-1.27 ; 17.78,1.27 20.32,-1.27 ; 19.05,1.27 21.59,-1.27 ; 20.32,1.27 22.86,-1.27 ; 21.59,1.27 24.13,-1.27 ; 22.86,1.27 25.4,-1.27 ; 24.13,1.27 26.67,-1.27 ; 25.4,1.27 27.94,-1.27 ; 26.67,1.27 29.21,-1.27 ; 27.94,1.27 30.48,-1.27 ; 29.21,1.27 31.75,-1.27 ; 30.48,1.27 33.02,-1.27 ; 31.75,1.27 34.29,-1.27 ; 33.02,1.27 35.56,-1.27 ; 34.29,1.27 36.83,-1.27 ; 35.56,1.27 38.1,-1.27 ; 36.83,1.27 39.37,-1.27 ; 38.1,1.27 39.37,0 ; -1.27,1.27 -1.27,-1.27 39.37,-1.27 ; -1.27,1.27 39.37,1.27 39.37,-1.27 ; -8,-33.5 -8,2.5 72,2.5 72,-33.5 -8,-33.5
3D body "LCD.STEP": height 19.76, standoff -3.25, extent -8,-33.5 72,2.5

## ESP32-PICO-MINI-02 [mm]
pads (61):
  rect 0.8x0.4 smd: 1(-5.9,4) 2(-5.9,3.2) 3(-5.9,2.4) 4(-5.9,1.6) 5(-5.9,0.8) 6(-5.9,0) 7(-5.9,-0.8) 8(-5.9,-1.6) 9(-5.9,-2.4) 10(-5.9,-3.2) 11(-5.9,-4) 25(5.9,-4) 26(5.9,-3.2) 27(5.9,-2.4) 28(5.9,-1.6) 29(5.9,-0.8) 30(5.9,0) 31(5.9,0.8) 32(5.9,1.6) 33(5.9,2.4) 34(5.9,3.2) 35(5.9,4)
  rect 0.4x0.8 smd: 12(-4.8,-5) 13(-4,-5) 14(-3.2,-5) 15(-2.4,-5) 16(-1.6,-5) 17(-0.8,-5) 18(0,-5) 19(0.8,-5) 20(1.6,-5) 21(2.4,-5) 22(3.2,-5) 23(4,-5) 24(4.8,-5) 36(4.8,5) 37(4,5) 38(3.2,5) 39(2.4,5) 40(1.6,5) 41(0.8,5) 42(0,5) 43(-0.8,5) 44(-1.6,5) 45(-2.4,5) 46(-3.2,5) 47(-4,5) 48(-4.8,5)
  rect 1.5x1.5 smd: 49(-1.925,-1.925) 49(-1.925,0) 49(0,-1.925) 49(0,0) 49(0,1.925) 49(1.925,-1.925) 49(1.925,0) 49(1.925,1.925)
  round 0.025 smd: 49(-1.925,1.925)
  rect 0.8x0.8 smd: 50(5.9,4.9) 51(5.9,-4.9) 52(-5.9,-4.9) 53(-5.9,4.9)
Top Layer:
  region: -1.175,1.175 -2.675,1.175 -2.675,2.1 -2.1,2.675 -1.175,2.675
Top Overlay:
  lines w0.2: -6.7,5.4 -6.7,-5.7 6.7,-5.7 6.7,5.4
Top Draw:
  lines w0.2: -6.7,-4.6 -5.6,-5.7 ; -6.7,-3.6 -4.6,-5.7 ; -6.7,-2.6 -3.6,-5.7 ; -6.7,-1.6 -2.6,-5.7 ; -6.7,-0.6 -1.6,-5.7 ; -6.7,0.4 -0.6,-5.7 ; -6.7,1.4 0.4,-5.7 ; -6.7,2.4 1.4,-5.7 ; -6.7,3.4 2.4,-5.7 ; -6.7,4.4 3.4,-5.7 ; -6.7,5.4 4.4,-5.7 ; -6.7,6.4 5.4,-5.7 ; -6.7,7.4 6.4,-5.7 ; -6.7,8.4 6.7,-5 ; -6.7,9.4 6.7,-4 ; -6.7,10.4 6.7,-3 ; -6.4,11.1 6.7,-2 ; -5.4,11.1 6.7,-1 ; -4.4,11.1 6.7,0 ; -3.4,11.1 6.7,1 ; -2.4,11.1 6.7,2 ; -1.4,11.1 6.7,3 ; -0.4,11.1 6.7,4 ; 0.6,11.1 6.7,5 ; 1.6,11.1 6.7,6 ; 2.6,11.1 6.7,7 ; 3.6,11.1 6.7,8 ; 4.6,11.1 6.7,9 ; 5.6,11.1 6.7,10 ; -6.7,-5.7 6.7,-5.7 6.7,11.1 -6.7,11.1 -6.7,-5.7
3D body "ESP32_PICO_MINI_02.step": height 2.5, standoff 0, extent -6.6,-5.6 6.6,11

## ESP32-S3-WROOM-1 [mm]
pads (49):
  rect 1.7x0.9 smd: 1(-8.89,5.207) 2(-8.89,3.937) 3(-8.89,2.667) 4(-8.89,1.397) 5(-8.89,0.127) 6(-8.89,-1.143) 7(-8.89,-2.413) 8(-8.89,-3.683) 9(-8.89,-4.953) 10(-8.89,-6.223) 11(-8.89,-7.493) 12(-8.89,-8.763) 13(-8.89,-10.033) 14(-8.89,-11.303) 27(8.89,-11.303) 28(8.89,-10.033) 29(8.89,-8.763) 30(8.89,-7.493) 31(8.89,-6.223) 32(8.89,-4.953) 33(8.89,-3.683) 34(8.89,-2.413) 35(8.89,-1.143) 36(8.89,0.127) 37(8.89,1.397) 38(8.89,2.667) 39(8.89,3.937) 40(8.89,5.207)
  rect 0.9x1.7 smd: 15(-6.985,-12.573) 16(-5.715,-12.573) 17(-4.445,-12.573) 18(-3.175,-12.573) 19(-1.905,-12.573) 20(-0.635,-12.573) 21(0.635,-12.573) 22(1.905,-12.573) 23(3.175,-12.573) 24(4.445,-12.573) 25(5.715,-12.573) 26(6.985,-12.573)
  rect 1x1 smd: 41(-2.9,-3.8) 41(-2.9,-2.4) 41(-2.9,-1) 41(-1.5,-3.8) 41(-1.5,-2.4) 41(-1.5,-1) 41(-0.1,-3.8) 41(-0.1,-2.4) 41(-0.1,-1)
Top Overlay:
  lines w0.25: -9.017,-12.065 -9.017,-12.7 -7.874,-12.7 ; -9.017,5.969 -9.017,6.858 9.017,6.858 9.017,5.969 ; 7.874,-12.7 9.017,-12.7 9.017,-12.065
Top Draw:
  lines w0.25: -9.017,-11.458 -7.775,-12.7 ; -9.017,-10.458 -6.775,-12.7 ; -9.017,-9.458 -5.775,-12.7 ; -9.017,-8.458 -4.775,-12.7 ; -9.017,-7.458 -3.775,-12.7 ; -9.017,-6.458 -2.775,-12.7 ; -9.017,-5.458 -1.775,-12.7 ; -9.017,-4.458 -0.775,-12.7 ; -9.017,-3.458 0.225,-12.7 ; -9.017,-2.458 1.225,-12.7 ; -9.017,-1.458 2.225,-12.7 ; -9.017,-0.458 3.225,-12.7 ; -9.017,0.542 4.225,-12.7 ; -9.017,1.542 5.225,-12.7 ; -9.017,2.542 6.225,-12.7 ; -9.017,3.542 7.225,-12.7 ; -9.017,4.542 8.225,-12.7 ; -9.017,5.542 9.017,-12.492 ; -9.017,6.542 9.017,-11.492 ; -9.017,7.542 9.017,-10.492 ; -9.017,8.542 9.017,-9.492 ; -9.017,9.542 9.017,-8.492 ; -9.017,10.542 9.017,-7.492 ; -9.017,11.542 9.017,-6.492 ; -9.017,12.542 9.017,-5.492 ; -8.225,12.75 9.017,-4.492 ; -7.225,12.75 9.017,-3.492 ; -6.225,12.75 9.017,-2.492 ; -5.225,12.75 9.017,-1.492 ; -4.225,12.75 9.017,-0.492 ; -3.225,12.75 9.017,0.508 ; -2.225,12.75 9.017,1.508 ; -1.225,12.75 9.017,2.508 ; -0.225,12.75 9.017,3.508 ; 0.775,12.75 9.017,4.508 ; 1.775,12.75 9.017,5.508 ; 2.775,12.75 9.017,6.508 ; 3.775,12.75 9.017,7.508 ; 4.775,12.75 9.017,8.508 ; 5.775,12.75 9.017,9.508 ; 6.775,12.75 9.017,10.508 ; 7.775,12.75 9.017,11.508 ; -9.017,-12.7 9.017,-12.7 9.017,12.75 -9.01,12.75 -9.017,12.743 -9.017,-12.7
3D body "ESP32-S3-WROOM.step": height 3.11, standoff -0.05, extent -9.01,-12.76 9.01,12.75

## ESP32-WROOM-32 [mm]
pads (47):
  rect 1.7x0.9 smd: 1(-9,5.25) 2(-9,3.98) 3(-9,2.71) 4(-9,1.44) 5(-9,0.17) 6(-9,-1.1) 7(-9,-2.37) 8(-9,-3.64) 9(-9,-4.91) 10(-9,-6.18) 11(-9,-7.45) 12(-9,-8.72) 13(-9,-9.99) 14(-9,-11.26) 25(9,-11.26) 26(9,-9.99) 27(9,-8.72) 28(9,-7.45) 29(9,-6.18) 30(9,-4.91) 31(9,-3.64) 32(9,-2.37) 33(9,-1.1) 34(9,0.17) 35(9,1.44) 36(9,2.71) 37(9,3.98) 38(9,5.25)
  rect 0.9x1.7 smd: 15(-5.7,-12.7) 16(-4.43,-12.7) 17(-3.16,-12.7) 18(-1.89,-12.7) 19(-0.62,-12.7) 20(0.65,-12.7) 21(1.92,-12.7) 22(3.19,-12.7) 23(4.46,-12.7) 24(5.73,-12.7)
  rect 1x1 smd: 39(-2.9,-3.8) 39(-2.9,-2.4) 39(-2.9,-1) 39(-1.5,-3.8) 39(-1.5,-2.4) 39(-1.5,-1) 39(-0.1,-3.8) 39(-0.1,-2.4) 39(-0.1,-1)
Top Overlay:
  lines w0.25: -9.017,-12.065 -9.017,-12.7 -6.5,-12.7 ; -9,6.1 -9,6.8 9,6.8 9,6.1 ; 6.5,-12.7 9.017,-12.7 9.017,-12.065
Top Draw:
  lines w0.2: -9,-11.5 -7.8,-12.7 ; -9,-10.5 -6.8,-12.7 ; -9,-9.5 -5.8,-12.7 ; -9,-8.5 -4.8,-12.7 ; -9,-7.5 -3.8,-12.7 ; -9,-6.5 -2.8,-12.7 ; -9,-5.5 -1.8,-12.7 ; -9,-4.5 -0.8,-12.7 ; -9,-3.5 0.2,-12.7 ; -9,-2.5 1.2,-12.7 ; -9,-1.5 2.2,-12.7 ; -9,-0.5 3.2,-12.7 ; -9,0.5 4.2,-12.7 ; -9,1.5 5.2,-12.7 ; -9,2.5 6.2,-12.7 ; -9,3.5 7.2,-12.7 ; -9,4.5 8.2,-12.7 ; -9,5.5 9,-12.5 ; -9,6.5 9,-11.5 ; -9,7.5 9,-10.5 ; -9,8.5 9,-9.5 ; -9,9.5 9,-8.5 ; -9,10.5 9,-7.5 ; -9,11.5 9,-6.5 ; -9,12.5 9,-5.5 ; -8.2,12.7 9,-4.5 ; -7.2,12.7 9,-3.5 ; -6.2,12.7 9,-2.5 ; -5.2,12.7 9,-1.5 ; -4.2,12.7 9,-0.5 ; -3.2,12.7 9,0.5 ; -2.2,12.7 9,1.5 ; -1.2,12.7 9,2.5 ; -0.2,12.7 9,3.5 ; 0.8,12.7 9,4.5 ; 1.8,12.7 9,5.5 ; 2.8,12.7 9,6.5 ; 3.8,12.7 9,7.5 ; 4.8,12.7 9,8.5 ; 5.8,12.7 9,9.5 ; 6.8,12.7 9,10.5 ; 7.8,12.7 9,11.5 ; -9,-12.7 -9,12.7 9,12.7 9,-12.7 -9,-12.7
3D body "ESP32_WROOM_32.step": height 3.1, standoff -0.01, extent -9.001,-12.751 9.001,12.75

## ESP8266-07 [mm]
pads (16):
  rect 2.8x1.2 smd: 1(0,0) 2(0,-2) 3(0,-4) 4(0,-6) 5(0,-8) 6(0,-10) 7(0,-12) 8(0,-14) 9(15.5,-14) 10(15.5,-12) 11(15.5,-10) 12(15.5,-8) 13(15.5,-6) 14(15.5,-4) 15(15.5,-2) 16(15.5,0)
Top Overlay:
  lines w0.2: -0.5,1 -0.5,5 15.5,5 15.5,1 ; 2,-15 13.5,-15
Top Draw:
  lines w0.2: -0.5,-13.5 1,-15 ; -0.5,-12.5 2,-15 ; -0.5,-11.5 3,-15 ; -0.5,-10.5 4,-15 ; -0.5,-9.5 5,-15 ; -0.5,-8.5 6,-15 ; -0.5,-7.5 7,-15 ; -0.5,-6.5 8,-15 ; -0.5,-5.5 9,-15 ; -0.5,-4.5 10,-15 ; -0.5,-3.5 11,-15 ; -0.5,-2.5 12,-15 ; -0.5,-1.5 13,-15 ; -0.5,-0.5 14,-15 ; -0.5,0.5 15,-15 ; -0.5,1.5 15.5,-14.5 ; -0.5,2.5 15.5,-13.5 ; -0.5,3.5 15.5,-12.5 ; -0.5,4.5 15.5,-11.5 ; 0,5 15.5,-10.5 ; 1,5 15.5,-9.5 ; 2,5 15.5,-8.5 ; 3,5 15.5,-7.5 ; 4,5 15.5,-6.5 ; 5,5 15.5,-5.5 ; 6,5 15.5,-4.5 ; 7,5 15.5,-3.5 ; 8,5 15.5,-2.5 ; 9,5 15.5,-1.5 ; 10,5 15.5,-0.5 ; 11,5 15.5,0.5 ; 12,5 15.5,1.5 ; 13,5 15.5,2.5 ; 14,5 15.5,3.5 ; -0.5,-15 -0.5,5 15.5,5 15.5,-15 -0.5,-15
3D body "ESP8266-ESP07.STEP": height 2.2, standoff -0.01, extent -0.5,-15 15.5,5

## WT901B [mm]
pads (12):
  rect 3x1.8 smd: 1(0,0) 2(0,-2.54) 3(0,-5.08) 4(0,-7.62) 5(0,-10.16) 6(0,-12.7) 7(14.605,-12.7) 8(14.605,-10.16) 9(14.605,-7.62) 10(14.605,-5.08) 11(14.605,-2.54) 12(14.605,0)
Top Overlay:
  lines w0.2: -0.381,-13.97 14.986,-13.97 ; -0.381,1.27 14.986,1.27
Top Draw:
  lines w0.2: -0.381,-12.667 0.922,-13.97 ; -0.381,-11.667 1.922,-13.97 ; -0.381,-10.667 2.922,-13.97 ; -0.381,-9.667 3.922,-13.97 ; -0.381,-8.667 4.922,-13.97 ; -0.381,-7.667 5.922,-13.97 ; -0.381,-6.667 6.922,-13.97 ; -0.381,-5.667 7.922,-13.97 ; -0.381,-4.667 8.922,-13.97 ; -0.381,-3.667 9.922,-13.97 ; -0.381,-2.667 10.922,-13.97 ; -0.381,-1.667 11.922,-13.97 ; -0.381,-0.667 12.922,-13.97 ; -0.381,0.333 13.922,-13.97 ; -0.318,1.27 14.922,-13.97 ; 0.683,1.27 14.986,-13.033 ; 1.683,1.27 14.986,-12.033 ; 2.683,1.27 14.986,-11.033 ; 3.683,1.27 14.986,-10.033 ; 4.683,1.27 14.986,-9.033 ; 5.683,1.27 14.986,-8.033 ; 6.683,1.27 14.986,-7.033 ; 7.683,1.27 14.986,-6.033 ; 8.683,1.27 14.986,-5.033 ; 9.683,1.27 14.986,-4.033 ; 10.683,1.27 14.986,-3.033 ; 11.683,1.27 14.986,-2.033 ; 12.683,1.27 14.986,-1.033 ; 13.683,1.27 14.986,-0.033 ; -0.381,-13.97 -0.381,1.27 14.986,1.27 14.986,-13.97 -0.381,-13.97